# Altium footprint library RJMG1S8008101BR.PcbLib: 1 footprints
Each footprint in its own frame and in the unit in brackets; x right, y up, seen from the top. Pads: shape width x height; smd on the part's side, far side on the other; paste and mask are expansions set on the pad; w line width, h text height; cw(c..) or ccw(c..) is an arc to the next point about the centre after c.
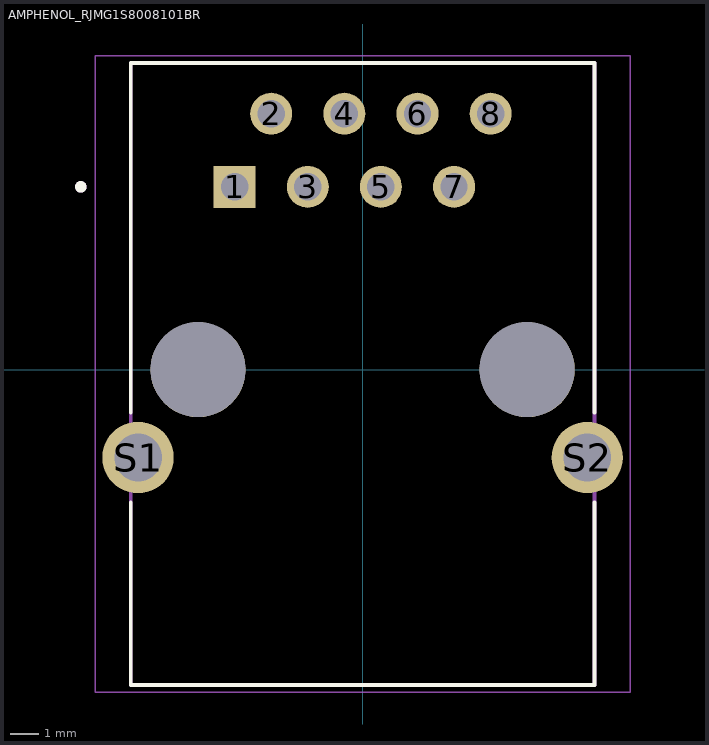
[diagram p0: the footprint, top view; thin cyan lines are the x and y axes]

## AMPHENOL_RJMG1S8008101BR [mm]
pads (12):
  rect 1.458x1.458 hole 0.95: 1(-4.445,6.35)
  round 1.458 hole 0.95: 2(-3.175,8.89) 3(-1.905,6.35) 4(-0.635,8.89) 5(0.635,6.35) 6(1.905,8.89) 7(3.175,6.35) 8(4.445,8.89)
  round 2.475 hole 1.65: S1(-7.8,-3.05) S2(7.8,-3.05)
  round 3.3 hole 3.3 unplated: ""(-5.715,0) ""(5.715,0)
Top Overlay:
  circle w0.2: c-9.787,6.35 r0.1
  lines w0.127: -8.05,-4.607 -8.05,-10.95 8.05,-10.95 8.05,-4.607 ; -8.05,-1.492 -8.05,10.65 8.05,10.65 8.05,-1.492
Mechanical 13:
  circle w0.2: c-9.787,6.35 r0.1
  lines w0.127: -8.05,-10.95 8.05,-10.95 8.05,10.65 -8.05,10.65 -8.05,-10.95
Mechanical 15:
  lines w0.05: -9.287,-11.2 -9.287,10.9 9.287,10.9 9.287,-11.2 -9.287,-11.2
3D body "step_temp.STEP": height 13.5, standoff -3.5, extent -8.05,-10.95 8.05,10.65